# Altium footprint library mva_General.PcbLib: 34 footprints (part 3 of 3)
Each footprint in its own frame and in the unit in brackets; x right, y up, seen from the top. Pads: shape width x height; smd on the part's side, far side on the other; paste and mask are expansions set on the pad; w line width, h text height; cw(c..) or ccw(c..) is an arc to the next point about the centre after c.
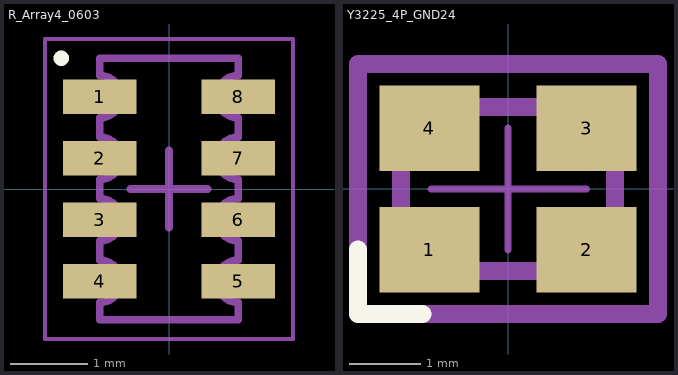
[diagram p2: the footprints below, top view; thin cyan lines are the x and y axes]

## R_Array4_0603 [mm] "Resistor SMD 0603 array 4."
height 0.6
pads (8):
  rect 0.95x0.45 smd: 1(-0.9,1.2) 2(-0.9,0.4) 3(-0.9,-0.4) 4(-0.9,-1.2) 5(0.9,-1.2) 6(0.9,-0.4) 7(0.9,0.4) 8(0.9,1.2)
Top Overlay:
  circle w0.1: c-1.4,1.7 r0.05
Mechanical 13:
  lines w0.1: -0.9,-1.7 -0.9,-1.475 ccw(c-0.9,-1.2) -0.9,-0.925 -0.9,-0.675 ccw(c-0.9,-0.4) -0.9,-0.125 -0.9,0.125 ccw(c-0.9,0.4) -0.9,0.675 -0.9,0.925 ccw(c-0.9,1.2) -0.9,1.475 -0.9,1.7 0.9,1.7 0.9,1.475 ccw(c0.9,1.2) 0.9,0.925 0.9,0.675 ccw(c0.9,0.4) 0.9,0.125 0.9,-0.125 ccw(c0.9,-0.4) 0.9,-0.675 0.9,-0.925 ccw(c0.9,-1.2) 0.9,-1.475 0.9,-1.7 -0.9,-1.7
Mechanical 15:
  lines w0.05: -1.61,-1.95 -1.61,1.95 1.61,1.95 1.61,-1.95 -1.61,-1.95
  lines w0.1: -0.5,0 0.5,0 ; 0,-0.5 0,0.5
3D body "R_Array_Convex_4x0603.step": height 0.5, standoff 0, extent -0.8,-1.6 0.8,1.6

## Y3225_4P_GND24 [mm] "Crystal SMD_3225 4p"
pads (4):
  rect 1.4x1.2 smd: 1(-1.1,-0.85) 2(1.1,-0.85) 3(1.1,0.85) 4(-1.1,0.85)
Top Overlay:
  lines w0.254: -2.1,-0.85 -2.1,-1.75 -1.2,-1.75
Mechanical 13:
  lines w0.254: -1.5,-1.15 1.5,-1.15 1.5,1.15 -1.5,1.15 -1.5,-1.15
Mechanical 15:
  lines w0.1: -1.075,0 1.1,0 ; 0,-0.85 0,0.85
  lines w0.254: -2.1,-1.75 2.1,-1.75 2.1,1.75 -2.1,1.75 -2.1,-1.75
3D body "CRYSTAL_SMD_3225.STEP": height 0.6, standoff 0, extent -1.6,-1.25 1.6,1.25